# Altium footprint library Filter_Board_EK.PcbLib: 11 footprints
Each footprint in its own frame and in the unit in brackets; x right, y up, seen from the top. Pads: shape width x height; smd on the part's side, far side on the other; paste and mask are expansions set on the pad; w line width, h text height; cw(c..) or ccw(c..) is an arc to the next point about the centre after c.
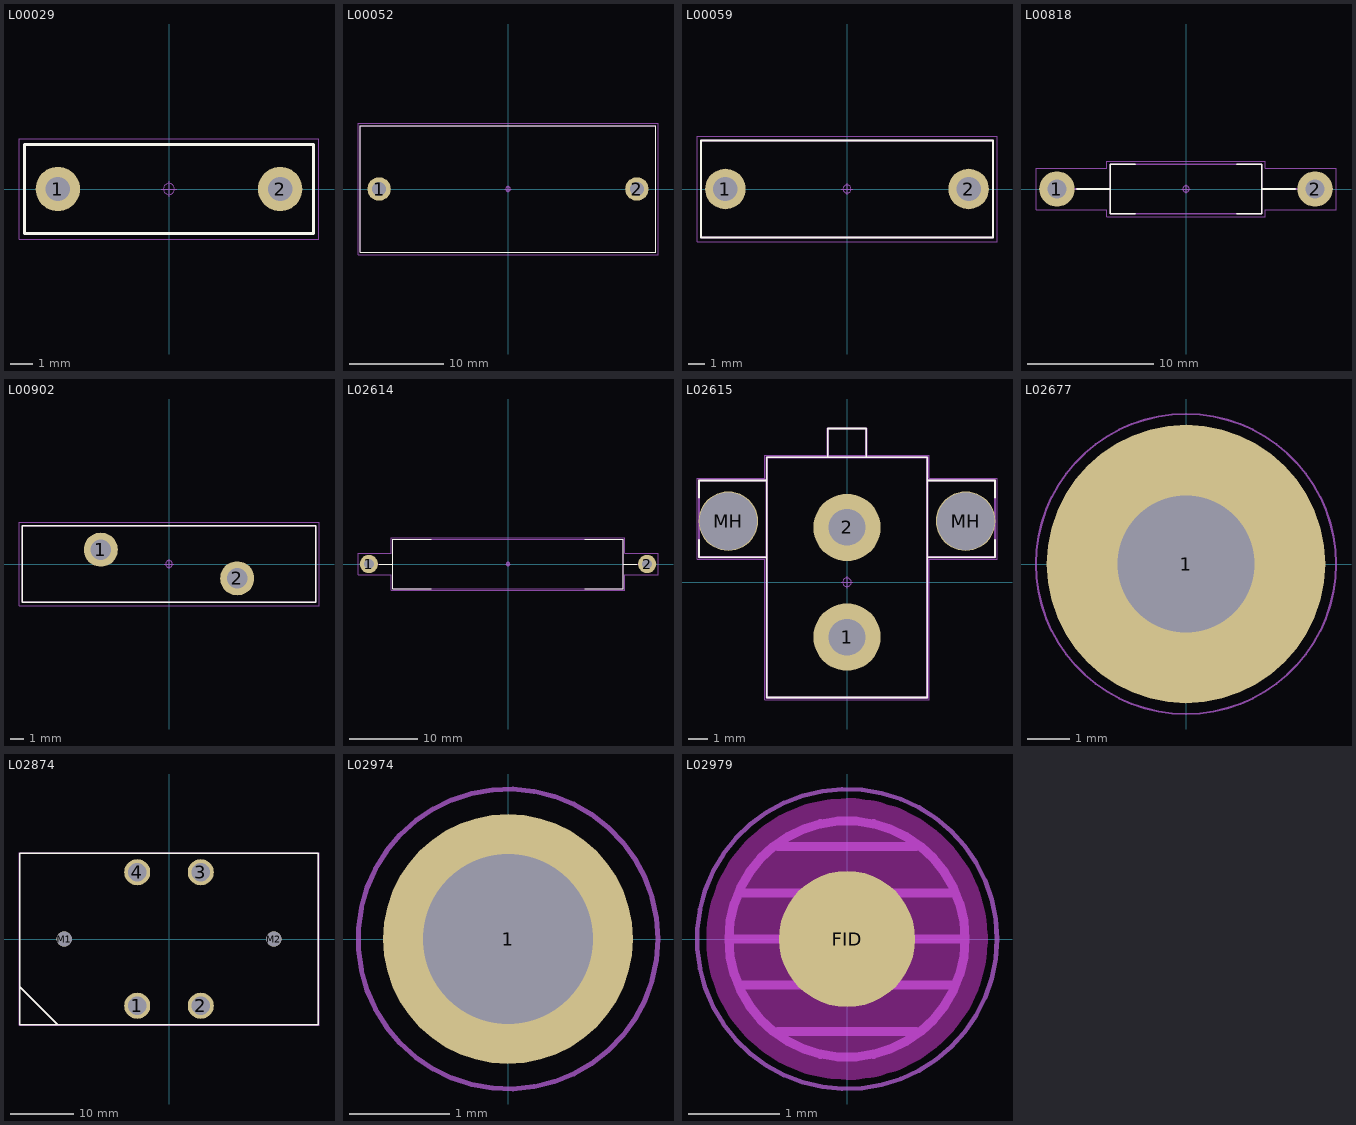
[diagram p0: the footprints below, top view; thin cyan lines are the x and y axes]

## L00029 [mm] "CAPRR1000W60L1300T400H1300"
height 13
pads (2):
  round 2 hole 1.1 paste-2: 1(-5,0) 2(5,0)
Top Overlay:
  lines w0.12: -6.5,-2 6.5,-2 6.5,2 -6.5,2 -6.5,-2
Mechanical 13:
  lines w0.12: -6.5,-2 6.5,-2 6.5,2 -6.5,2 -6.5,-2
  text ".Designator" at -3.429,-0.635 h1.5
Mechanical 15:
  circle w0.05: c0,0 r0.25
  lines w0.05: -0.35,0 0.35,0 ; 0,-0.35 0,0.35 ; -6.75,-2.25 -6.75,2.25 6.75,2.25 6.75,-2.25 -6.75,-2.25
Mechanical 31:
  circle w0.025: c5,0 r0.33
  circle w0.025: c-5,0 r0.33
  lines w0.025: -6.5,-2 6.5,-2 6.5,2 -6.5,2 -6.5,-2
3D body "CAPRR1000W60L1300T400H1300.STEP": height 13, standoff -2, extent -6.5,-2 6.5,2

## L00052 [mm] "CAPRR2750W80L3150T1350H2100"
height 21
pads (2):
  round 2.5 hole 1.5 paste-2.5: 1(-13.75,0) 2(13.75,0)
Top Overlay:
  lines w0.12: -15.75,-6.75 -15.75,6.75 15.75,6.75 15.75,-6.75 -15.75,-6.75
Mechanical 13:
  lines w0.12: -15.75,-6.75 -15.75,6.75 15.75,6.75 15.75,-6.75 -15.75,-6.75
  text ".Designator" at -3.3,-0.6 h1.5
Mechanical 15:
  circle w0.05: c0,0 r0.25
  lines w0.05: -0.35,0 0.35,0 ; 0,-0.35 0,0.35 ; -16,-7 16,-7 16,7 -16,7 -16,-7
Mechanical 31:
  circle w0.025: c-13.75,0 r0.44
  circle w0.025: c13.75,0 r0.44
  lines w0.025: -15.75,-6.75 -15.75,6.75 15.75,6.75 15.75,-6.75 -15.75,-6.75
3D body "CAPRR2750W80L3150T1350H2100.STEP": height 21, standoff -2, extent -15.75,-6.75 15.75,6.75

## L00059 [mm] "CAPRR1500W69L1800T600H1200"
height 12
pads (2):
  round 2.5 hole 1.5 paste-2.5: 1(-7.5,0) 2(7.5,0)
Top Overlay:
  lines w0.12: -9,-3 9,-3 9,3 -9,3 -9,-3
Mechanical 13:
  lines w0.12: -9,-3 9,-3 9,3 -9,3 -9,-3
  text ".Designator" at -4.445,-0.889 h2
Mechanical 15:
  circle w0.05: c0,0 r0.25
  lines w0.05: -0.35,0 0.35,0 ; 0,-0.35 0,0.35 ; -9.25,-3.25 -9.25,3.25 9.25,3.25 9.25,-3.25 -9.25,-3.25
Mechanical 31:
  circle w0.025: c7.5,0 r0.425
  circle w0.025: c-7.5,0 r0.425
  lines w0.025: -9,-3 9,-3 9,3 -9,3 -9,-3
3D body "CAPRR1500W69L1800T600H1200.STEP": height 12, standoff -2, extent -9,-3 9,3

## L00818 [mm] "RESAD2040W78L1200D390"
height 3.9
pads (2):
  round 2.8 hole 1.5 paste-2.8: 1(-10.2,0) 2(10.2,0)
Top Overlay:
  lines w0.12: -8.62,0 -6,0 ; -4,-1.95 -6,-1.95 -6,1.95 -4,1.95 ; 4,-1.95 6,-1.95 6,1.95 4,1.95 ; 6,0 8.62,0
Mechanical 13:
  lines w0.12: -8.8,0 -6,0 ; 6,0 8.8,0 ; -6,-1.95 6,-1.95 6,1.95 -6,1.95 -6,-1.95
  text ".Designator" at -3.302,-0.635 h1.5
Mechanical 15:
  circle w0.05: c0,0 r0.25
  lines w0.05: -0.35,0 0.35,0 ; 0,-0.35 0,0.35 ; -11.85,-1.65 -6.25,-1.65 -6.25,-2.2 6.25,-2.2 6.25,-1.65 11.85,-1.65 11.85,1.65 6.25,1.65 6.25,2.2 -6.25,2.2 -6.25,1.65 -11.85,1.65 -11.85,-1.65
Mechanical 31:
  circle w0.025: c10.2,0 r0.415
  circle w0.025: c-10.2,0 r0.415
  lines w0.025: -6,-1.95 6,-1.95 6,1.95 -6,1.95 -6,-1.95
3D body "RESAD2040W78L1200D390.STEP": height 3.9, standoff -2, extent -10.615,-1.95 10.615,1.95

## L00902 [mm] "VARRB1000W100L2150T560H2550"
height 25.5
pads (2):
  round 2.5 hole 1.5 paste-2.5: 1(-5,1.05) 2(5,-1.05)
Top Overlay:
  lines w0.12: -10.75,-2.8 -10.75,2.8 10.75,2.8 10.75,-2.8 -10.75,-2.8
Mechanical 13:
  lines w0.12: -10.75,-2.8 -10.75,2.8 10.75,2.8 10.75,-2.8 -10.75,-2.8
  text ".Designator" at -3.4,-0.6 h1.5
Mechanical 15:
  circle w0.05: c0,0 r0.25
  lines w0.05: -0.35,0 0.35,0 ; 0,-0.35 0,0.35 ; -11,-3.05 11,-3.05 11,3.05 -11,3.05 -11,-3.05
Mechanical 31:
  circle w0.025: c-5,1.2 r0.525
  circle w0.025: c5,-1.2 r0.525
  lines w0.025: -10.75,-2.8 -10.75,2.8 10.75,2.8 10.75,-2.8 -10.75,-2.8
3D body "VARRB1000W100L2150T560H2550.STEP": height 25.5, standoff -2, extent -10.75,-2.8 10.75,2.8

## L02614 [mm] "FUSAD4100W81L3390D730"
height 7.3
pads (2):
  round 2.7 hole 1.5 paste-2.7: 1(-20.5,0) 2(20.5,0)
Top Overlay:
  lines w0.12: -18.97,0 -16.95,0 ; -11.3,-3.65 -16.95,-3.65 -16.95,3.65 -11.3,3.65 ; 11.3,-3.65 16.95,-3.65 16.95,3.65 11.3,3.65 ; 16.95,0 18.97,0
Mechanical 13:
  lines w0.12: -19.15,0 -16.95,0 ; 16.95,0 19.15,0 ; -16.95,-3.65 16.95,-3.65 16.95,3.65 -16.95,3.65 -16.95,-3.65
  text ".Designator" at -4.445,-0.889 h2
Mechanical 15:
  circle w0.05: c0,0 r0.25
  lines w0.05: -0.35,0 0.35,0 ; 0,-0.35 0,0.35 ; -22.1,-1.6 -17.2,-1.6 -17.2,-3.9 17.2,-3.9 17.2,-1.6 22.1,-1.6 22.1,1.6 17.2,1.6 17.2,3.9 -17.2,3.9 -17.2,1.6 -22.1,1.6 -22.1,-1.6
Mechanical 31:
  circle w0.025: c20.5,0 r0.43
  circle w0.025: c-20.5,0 r0.43
  lines w0.025: -16.95,-3.65 16.95,-3.65 16.95,3.65 -16.95,3.65 -16.95,-3.65
3D body: height 0.25, standoff 0, extent 0,0 0.254,0.254
3D body "FUSAD4100W81L3390D730.STEP": height 7.3, standoff -2, extent -20.93,-3.65 20.93,3.65

## L02615 [mm]
height 15
pads (4):
  round 3.5 / inner round 3.3 / far side round 3.5 hole 1.9: 1(0,-2.85) 2(0,2.85)
  round 3.1 hole 3 unplated: MH(-6.17,3.18) MH(6.17,3.18)
Top Overlay:
  lines w0.1: -7.7,2.2 -7.7,1.3 -4.175,1.3 ; -7.7,4.4 -7.7,5.3 -4.175,5.3 ; -1,6.5 -1,8 1,8 1,6.5 ; 4.175,1.3 7.7,1.3 7.7,2.2 ; 4.175,5.3 7.7,5.3 7.7,4.4 ; -4.175,-6 -4.175,6.5 4.175,6.5 4.175,-6 -4.175,-6
Top Courtyard:
  circle w0.05: c0,0 r0.225
  lines w0.05: -0.3,0 0.3,0 ; 0,-0.3 0,0.3 ; -7.8,1.2 -4.275,1.2 -4.275,-6.1 4.275,-6.1 4.275,1.2 7.8,1.2 7.8,5.4 4.275,5.4 4.275,6.6 -4.275,6.6 -4.275,5.4 -7.8,5.4 -7.8,1.2
Top Assembly:
  lines w0.12: -4.175,1.3 -7.7,1.3 -7.7,5.3 -4.175,5.3 ; -1,6.5 -1,8 1,8 1,6.5 ; 4.175,1.3 7.7,1.3 7.7,5.3 4.175,5.3 ; -4.175,-6 4.175,-6 4.175,6.5 -4.175,6.5 -4.175,-6
  text ".Designator" at -4.6,-0.8 h2
3D body "768290002.stp": height 14.8, standoff -3.78, extent -7.692,-6.017 7.7,8.017

## L02677 [mm]
pads (1):
  round 6.5 hole 3.2: 1(0,0)
Mechanical 13:
  circle w0.12: c0,0 r1.6
  text ".Designator" at -2.2,2 h1
Mechanical 15:
  circle w0.05: c0,0 r3.5

## L02874 [mm]
height 46
pads (6):
  round 4.1 hole 2.9: 1(-5,-10.5) 2(5,-10.5) 3(5,10.5) 4(-5,10.5)
  round 2.4 hole 2.4 unplated: M1(-16.5,0) M2(16.5,0)
Top Overlay:
  lines w0.2: -23.5,-7.5 -17.5,-13.5 ; -23.5,-13.5 23.5,-13.5 23.5,13.5 -23.5,13.5 -23.5,-13.5
Mechanical 13:
  lines w0.12: -23.5,-7.5 -17.5,-13.5 ; -23.5,-13.5 -23.5,13.5 23.5,13.5 23.5,-13.5 -23.5,-13.5
  text ".Designator" at -3.4,-0.6 h1.5
Mechanical 15:
  lines w0.05: -23.6,-13.6 23.6,-13.6 23.6,13.6 -23.6,13.6 -23.6,-13.6
3D body "29_Wurth.stp": height 39.2, standoff -4.9, extent -20.528,-13.25 20.528,13.25

## L02974 [mm]
pads (1):
  round 2.5 hole 1.7: 1(0,0)
Mechanical 13:
  circle w0.12: c0,0 r0.85
  text ".Designator" at -2.2,1 h1
Mechanical 15:
  circle w0.05: c0,0 r1.5

## L02979 [mm]
pads (1):
  round 1.5 smd paste-0.2 mask+0.5: FID(0,0)
Keep-Out Layer:
  circle w1.1: c0,0 r1
Mechanical 13:
  circle w0.1: c0,0 r1.3
  lines w0.1: -1.27,0 0,0 1.27,0 ; -1.143,-0.508 1.143,-0.508 ; -1.143,0.508 1.143,0.508 ; -0.762,-1.016 0.762,-1.016 ; -0.762,1.016 0.762,1.016
  text ".Designator" at -1.778,1.651 h0.8
Mechanical 15:
  circle w0.05: c0,0 r1.65